# Altium footprint library GeneratedFootprints.PcbLib: 29 footprints (part 2 of 2)
Each footprint in its own frame and in the unit in brackets; x right, y up, seen from the top. Pads: shape width x height; smd on the part's side, far side on the other; paste and mask are expansions set on the pad; w line width, h text height; cw(c..) or ccw(c..) is an arc to the next point about the centre after c.
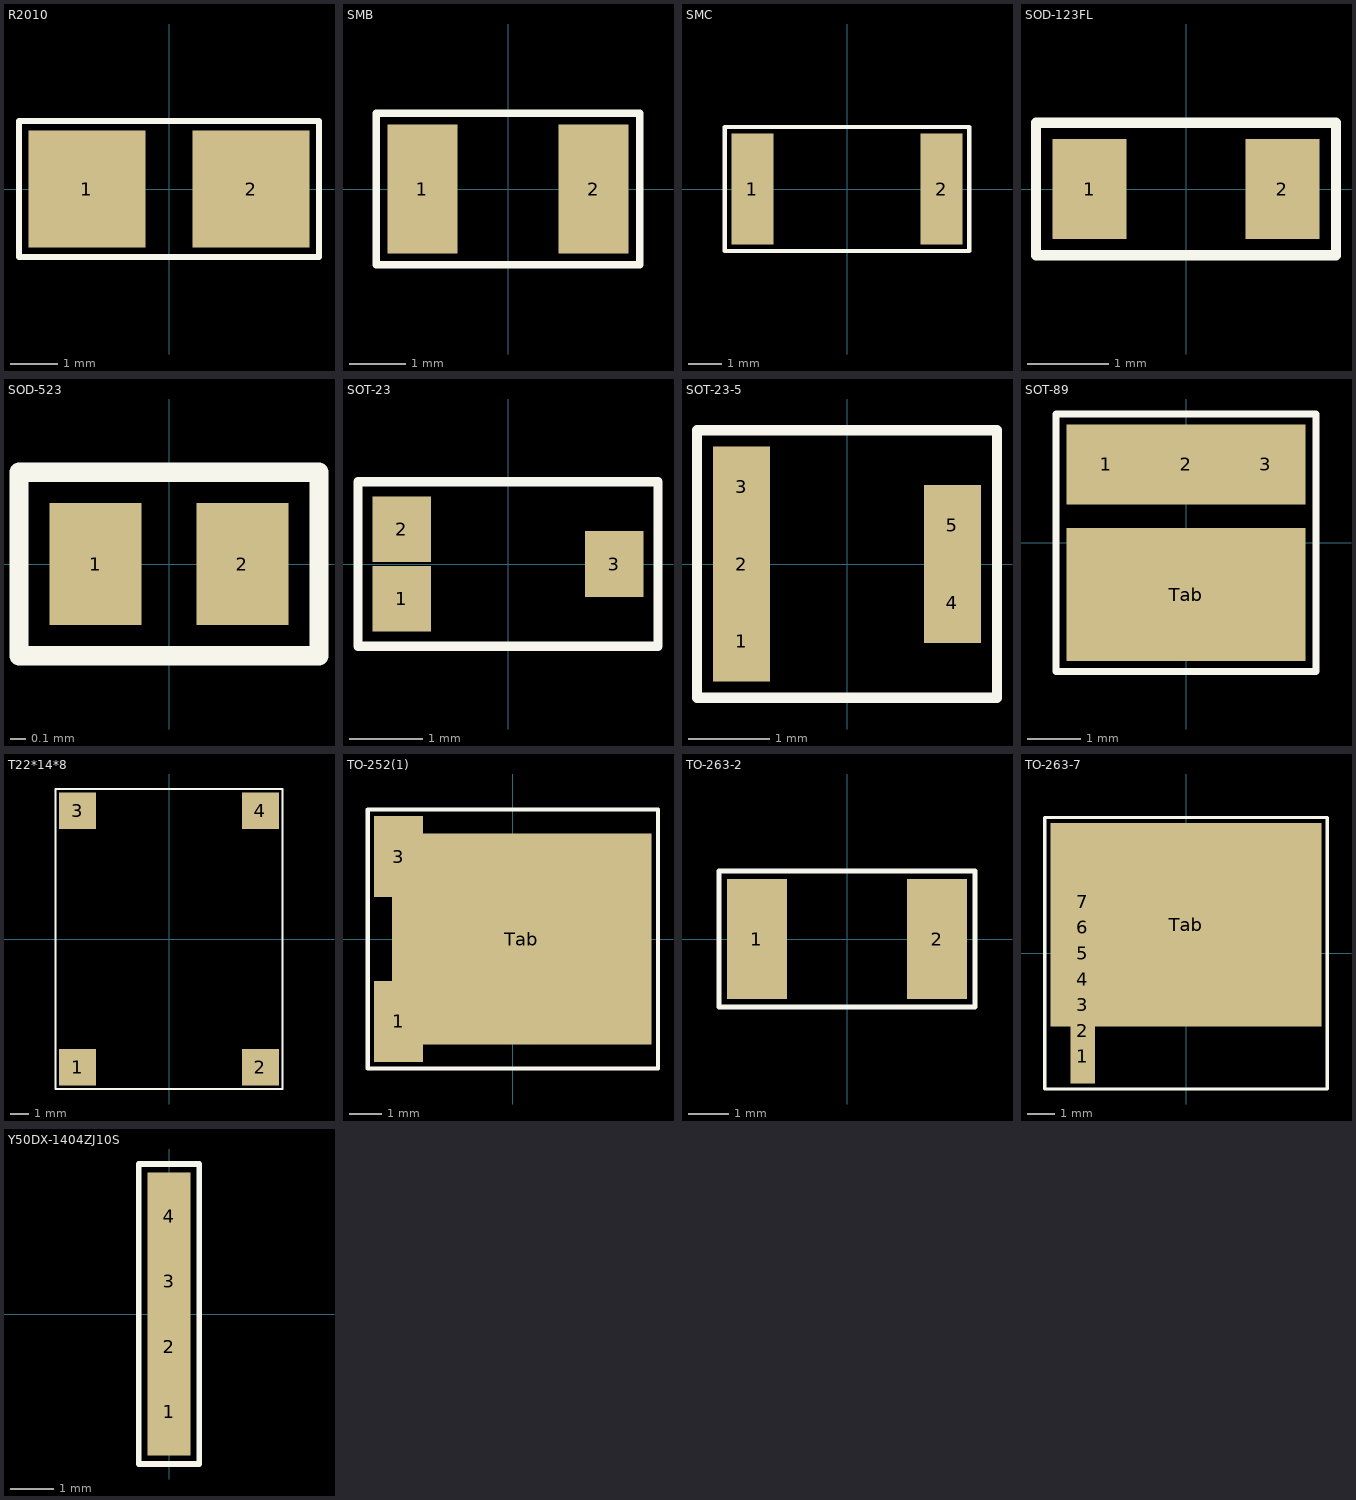
[diagram p1: the footprints below, top view; thin cyan lines are the x and y axes]

## R2010 [mm]
pads (2):
  rect 2.5x2.5 smd: 1(-1.75,0) 2(1.75,0)
Top Overlay:
  lines w0.127: -3.2,-1.45 3.2,-1.45 3.2,1.45 -3.2,1.45 -3.2,-1.45

## SMB [mm]
pads (2):
  rect 1.25x2.3 smd: 1(-1.525,0) 2(1.525,0)
Top Overlay:
  lines w0.127: -2.35,-1.35 2.35,-1.35 2.35,1.35 -2.35,1.35 -2.35,-1.35

## SMC [mm]
pads (2):
  rect 1.25x3.3 smd: 1(-2.825,0) 2(2.825,0)
Top Overlay:
  lines w0.127: -3.65,-1.85 3.65,-1.85 3.65,1.85 -3.65,1.85 -3.65,-1.85

## SOD-123FL [mm]
pads (2):
  rect 0.91x1.22 smd: 1(-1.18,0) 2(1.18,0)
Top Overlay:
  lines w0.127: -1.835,-0.81 1.835,-0.81 1.835,0.81 -1.835,0.81 -1.835,-0.81

## SOD-523 [mm]
pads (2):
  rect 0.6x0.8 smd: 1(-0.48,0) 2(0.48,0)
Top Overlay:
  lines w0.127: -0.98,-0.6 0.98,-0.6 0.98,0.6 -0.98,0.6 -0.98,-0.6

## SOT-23 [mm]
pads (3):
  rect 0.8x0.9 smd: 1(-1.45,-0.475) 2(-1.45,0.475) 3(1.45,0)
Top Overlay:
  lines w0.127: -2.05,-1.125 2.05,-1.125 2.05,1.125 -2.05,1.125 -2.05,-1.125

## SOT-23-5 [mm]
pads (5):
  rect 0.7x1 smd: 1(-1.3,-0.95) 2(-1.3,0) 3(-1.3,0.95) 4(1.3,-0.475) 5(1.3,0.475)
Top Overlay:
  lines w0.127: -1.85,-1.65 1.85,-1.65 1.85,1.65 -1.85,1.65 -1.85,-1.65

## SOT-89 [mm]
pads (4):
  rect 1.5x1.5 smd: 1(-1.5,1.475) 2(0,1.475) 3(1.5,1.475)
  rect 4.5x2.5 smd: Tab(0,-0.975)
Top Overlay:
  lines w0.127: -2.45,-2.425 2.45,-2.425 2.45,2.425 -2.45,2.425 -2.45,-2.425

## T22*14*8 [mm]
pads (4):
  rect 2x2 smd: 1(-5,-7) 2(5,-7) 3(-5,7) 4(5,7)
Top Overlay:
  lines w0.127: -6.2,-8.2 6.2,-8.2 6.2,8.2 -6.2,8.2 -6.2,-8.2

## TO-252(1) [mm]
pads (3):
  rect 1.5x2.5 smd: 1(-3.525,-2.54) 3(-3.525,2.54)
  rect 8x6.5 smd: Tab(0.275,0)
Top Overlay:
  lines w0.127: -4.475,-3.99 4.475,-3.99 4.475,3.99 -4.475,3.99 -4.475,-3.99

## TO-263-2 [mm]
pads (2):
  rect 1.5x3 smd: 1(-2.25,0) 2(2.25,0)
Top Overlay:
  lines w0.127: -3.2,-1.7 3.2,-1.7 3.2,1.7 -3.2,1.7 -3.2,-1.7

## TO-263-7 [mm]
pads (8):
  rect 0.9x2 smd: 1(-3.8,-3.8) 2(-3.8,-2.85) 3(-3.8,-1.9) 4(-3.8,-0.95) 5(-3.8,0) 6(-3.8,0.95) 7(-3.8,1.9)
  rect 10x7.5 smd: Tab(0,1.05)
Top Overlay:
  lines w0.127: -5.2,-5 5.2,-5 5.2,5 -5.2,5 -5.2,-5

## Y50DX-1404ZJ10S [mm]
pads (4):
  rect 1x2 smd: 1(0,-2.25) 2(0,-0.75) 3(0,0.75) 4(0,2.25)
Top Overlay:
  lines w0.127: -0.7,-3.45 0.7,-3.45 0.7,3.45 -0.7,3.45 -0.7,-3.45